# Altium schematic symbol library SCH - CRYSTALS - ECS ECS-2520MV.SCHLIB: 1 symbol
Pins are listed as number, name and electrical type; pins without a type are passive.

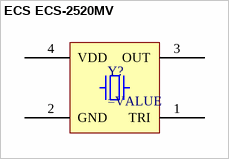
[diagram p0: symbol ECS ECS-2520MV]

## ECS ECS-2520MV
designator Y?
pins: 1 TRI, 2 GND, 3 OUT, 4 VDD